# Altium footprint library SM71202HTG.PcbLib: 1 footprints
Each footprint in its own frame and in the unit in brackets; x right, y up, seen from the top. Pads: shape width x height; smd on the part's side, far side on the other; paste and mask are expansions set on the pad; w line width, h text height; cw(c..) or ccw(c..) is an arc to the next point about the centre after c.
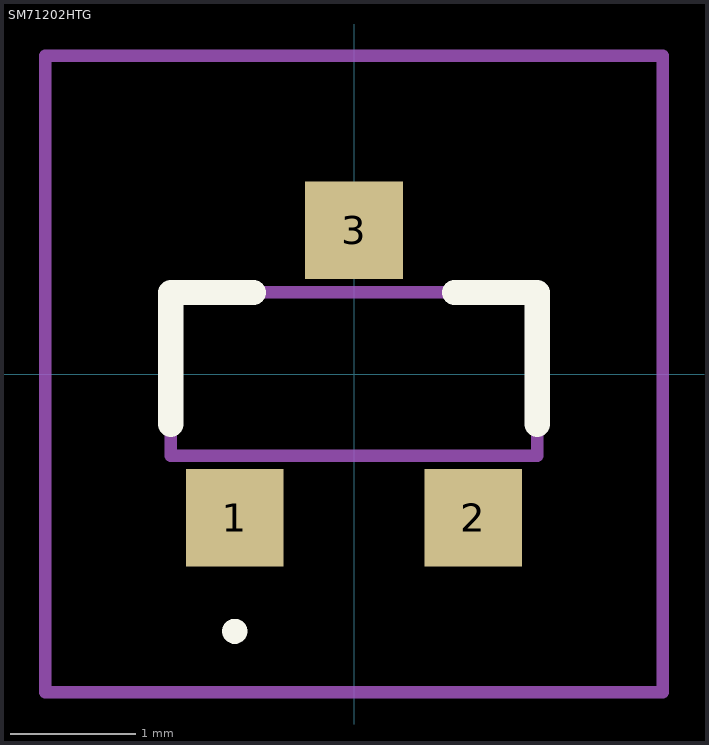
[diagram p0: the footprint, top view; thin cyan lines are the x and y axes]

## SM71202HTG [mm]
pads (3):
  rect 0.78x0.78 smd: 1(-0.95,-1.145) 2(0.95,-1.145) 3(0,1.145)
Top Overlay:
  lines w0.1: -0.95,-2.1 cw(c-0.95,-2.05) -0.95,-2 ; -0.95,-2.1 -0.95,-2.1 ; -0.95,-2.1 ccw(c-0.95,-2.05) -0.95,-2 ; -0.95,-2 -0.95,-2
  lines w0.2: -1.46,-0.4 -1.46,0.65 -0.8,0.65 ; 0.8,0.65 1.46,0.65 1.46,-0.4
Mechanical 15:
  lines w0.1: -1.46,-0.65 1.46,-0.65 1.46,0.65 -1.46,0.65 -1.46,-0.65
Mechanical 20:
  lines w0.1: -2.46,-2.535 2.46,-2.535 2.46,2.535 -2.46,2.535 -2.46,-2.535